# Altium integrated library Tuyita_Library.IntLib: 1 symbol
Pins are listed as number, name and electrical type; pins without a type are passive.

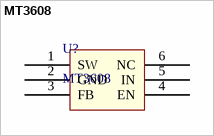
[diagram p0: symbol MT3608]

## MT3608
designator U?
High Efficiency 1.2MHz  2A Step Up Converter
pins: 1 SW, 2 GND, 3 FB, 4 EN, 5 IN, 6 NC